# Altium footprint library PcbLib2.PcbLib: 6 footprints
Each footprint in its own frame and in the unit in brackets; x right, y up, seen from the top. Pads: shape width x height; smd on the part's side, far side on the other; paste and mask are expansions set on the pad; w line width, h text height; cw(c..) or ccw(c..) is an arc to the next point about the centre after c.
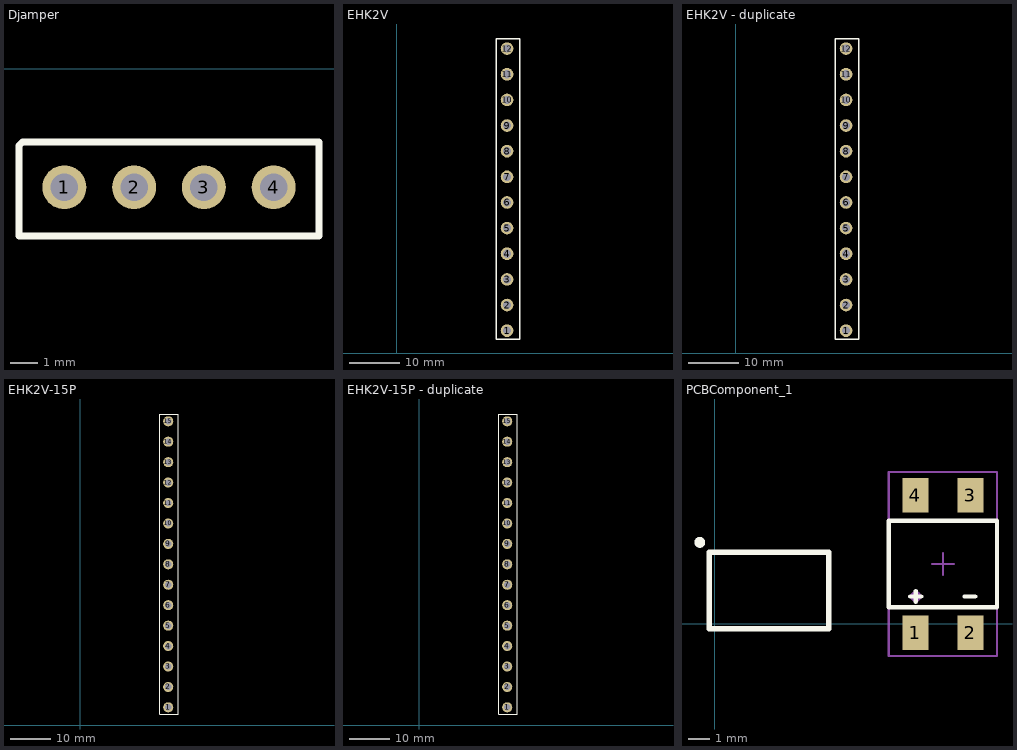
[diagram p0: the footprints below, top view; thin cyan lines are the x and y axes]

## Djamper [mm]
pads (4):
  round 1.6 hole 1: 1(-10.287,-4.318) 2(-7.747,-4.318) 3(-5.207,-4.318) 4(-2.667,-4.318)
Top Overlay:
  lines w0.254: -11.938,-6.096 -1.016,-6.096 -1.016,-2.667 -11.811,-2.667 -11.938,-2.794 -11.938,-5.842 -11.938,-6.096
3D body "PLS.SLDPRT": height 8.8, standoff -3, extent -11.557,-5.567 -1.397,-3.027

## EHK2V [mm]
pads (12):
  round 2.5 hole 1.6: 1(21.844,4.445) 2(21.844,9.525) 3(21.844,14.605) 4(21.844,19.685) 5(21.844,24.765) 6(21.844,29.845) 7(21.844,34.925) 8(21.844,40.005) 9(21.844,45.085) 10(21.844,50.165) 11(21.844,55.245) 12(21.844,60.325)
Top Overlay:
  lines w0.254: 19.685,2.794 24.384,2.794 24.384,62.23 19.685,62.23 19.685,2.794
3D body "EHK2V-12P.stp": height 18, standoff -4, extent 16.244,1.905 27.444,62.865

## EHK2V - duplicate [mm]
pads (12):
  round 2.5 hole 1.6: 1(21.844,4.445) 2(21.844,9.525) 3(21.844,14.605) 4(21.844,19.685) 5(21.844,24.765) 6(21.844,29.845) 7(21.844,34.925) 8(21.844,40.005) 9(21.844,45.085) 10(21.844,50.165) 11(21.844,55.245) 12(21.844,60.325)
Top Overlay:
  lines w0.254: 19.685,2.794 24.384,2.794 24.384,62.23 19.685,62.23 19.685,2.794
3D body "EHK2V-12P.stp": height 18, standoff -4, extent 16.15,1.95 27.35,62.91

## EHK2V-15P [mm]
pads (15):
  round 2.5 hole 1.6: 1(21.844,4.445) 2(21.844,9.525) 3(21.844,14.605) 4(21.844,19.685) 5(21.844,24.765) 6(21.844,29.845) 7(21.844,34.925) 8(21.844,40.005) 9(21.844,45.085) 10(21.844,50.165) 11(21.844,55.245) 12(21.844,60.325) 13(21.844,65.405) 14(21.844,70.485) 15(21.844,75.565)
Top Overlay:
  lines w0.254: 19.685,2.794 19.685,77.375 24.384,77.375 24.384,2.794 19.685,2.794
3D body "EHK2V-15P.stp": height 18, standoff -4, extent 16.3,1.825 27.5,78.025

## EHK2V-15P - duplicate [mm]
pads (15):
  round 2.5 hole 1.6: 1(21.844,4.445) 2(21.844,9.525) 3(21.844,14.605) 4(21.844,19.685) 5(21.844,24.765) 6(21.844,29.845) 7(21.844,34.925) 8(21.844,40.005) 9(21.844,45.085) 10(21.844,50.165) 11(21.844,55.245) 12(21.844,60.325) 13(21.844,65.405) 14(21.844,70.485) 15(21.844,75.565)
Top Overlay:
  lines w0.254: 19.685,2.794 19.685,77.375 24.384,77.375 24.384,2.794 19.685,2.794
3D body "EHK2V-15P.stp": height 18, standoff -4, extent 16.3,1.66 27.5,77.86

## PCBComponent_1 [mm]
pads (4):
  rect 1.2x1.6 smd: 1(9.255,-0.425) 2(11.795,-0.425) 3(11.795,5.925) 4(9.255,5.925)
Top Overlay:
  circle w0.25: c-0.7,3.75 r0.125
  lines w0.2: 9.025,1.25 9.525,1.25 ; 9.275,1 9.275,1.5 ; 11.525,1.25 12.025,1.25 ; 8.025,0.75 13.025,0.75 13.025,4.75 8.025,4.75 8.025,0.75
  lines w0.254: -0.25,-0.25 5.25,-0.25 5.25,3.3 -0.25,3.3 -0.25,-0.25
Mechanical 7:
  lines w0.05: 8.025,-1.5 8.025,7 13.025,7 13.025,-1.5 8.025,-1.5
  text ".Designator" at 9.025,2.25 h1.5
Mechanical 13:
  circle w0.25: c9.275,1.25 r0.125
  lines w0.1: 8.025,0.75 13.025,0.75 13.025,4.75 8.025,4.75 8.025,0.75
Mechanical 15:
  lines w0.1: 10.025,2.75 11.025,2.75 ; 10.525,2.25 10.525,3.25 ; 8.025,-1.5 13.025,-1.5 13.025,7 8.025,7 8.025,-1.5
3D body "User Library-MSOP-10-1 (1).step": height 1.05, standoff 0, extent 0,0 5.027,3
3D body "User Library-SOP254P665X290.step": height 2.9, standoff 0, extent 8.05,-0.593 13,6.093